# Altium schematic symbol library IC-Power.SchLib: 4 symbols
Pins are listed as number, name and electrical type; pins without a type are passive.

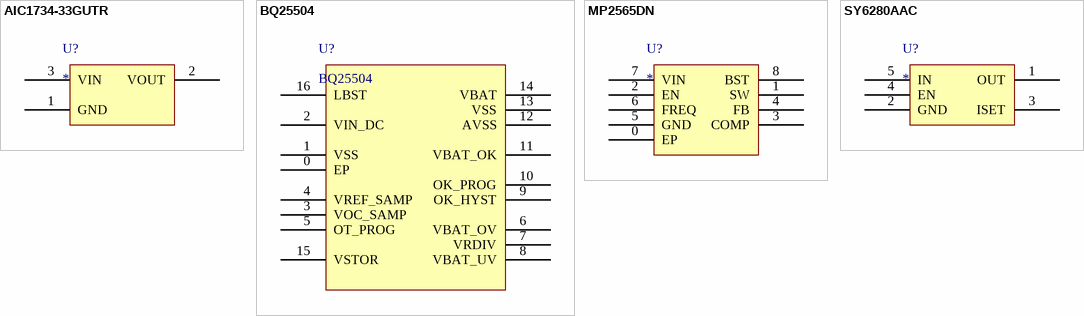
[diagram p0: symbols AIC1734-33GUTR to SY6280AAC]

## AIC1734-33GUTR
designator U?
AIC,LDO,Vout 3V,3300mA Low Dropout,Vin(max) 12V.
footprint SOT-23-3
pins: 1 GND, 2 VOUT, 3 VIN

## BQ25504
designator U?
TI,Power,Ultra Low-Power Boost Converter With Battery Management
footprint VQFN-16_3.0x3.0x05P
pins: 0 EP, 1 VSS, 2 VIN_DC, 3 VOC_SAMP, 4 VREF_SAMP, 5 OT_PROG, 6 VBAT_OV, 7 VRDIV, 8 VBAT_UV, 9 OK_HYST, 10 OK_PROG, 11 VBAT_OK, 12 AVSS, 13 VSS, 14 VBAT, 15 VSTOR, 16 LBST

## MP2565DN
designator U?
footprint SOIC-8_EP_150MIL
pins: 0 EP, 1 SW, 2 EN, 3 COMP, 4 FB, 5 GND, 6 FREQ, 7 VIN, 8 BST

## SY6280AAC
designator U?
Silergy,Low Loss Power Distribution Switch
footprint SOT-23-5
pins: 1 OUT, 2 GND, 3 ISET, 4 EN, 5 IN